# Altium schematic symbol library Res_Yageo_RT1206BRD07100RL_eec.SchLib: 1 symbol
Pins are listed as number, name and electrical type; pins without a type are passive.

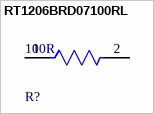
[diagram p0: symbol RT1206BRD07100RL]

## RT1206BRD07100RL
designator R?, comment 100R
pins: 1, 2